# EAGLE library part RECOM_RS3_DC/DC (library mbed-microcontroller)
Recom RS3- DC/DC
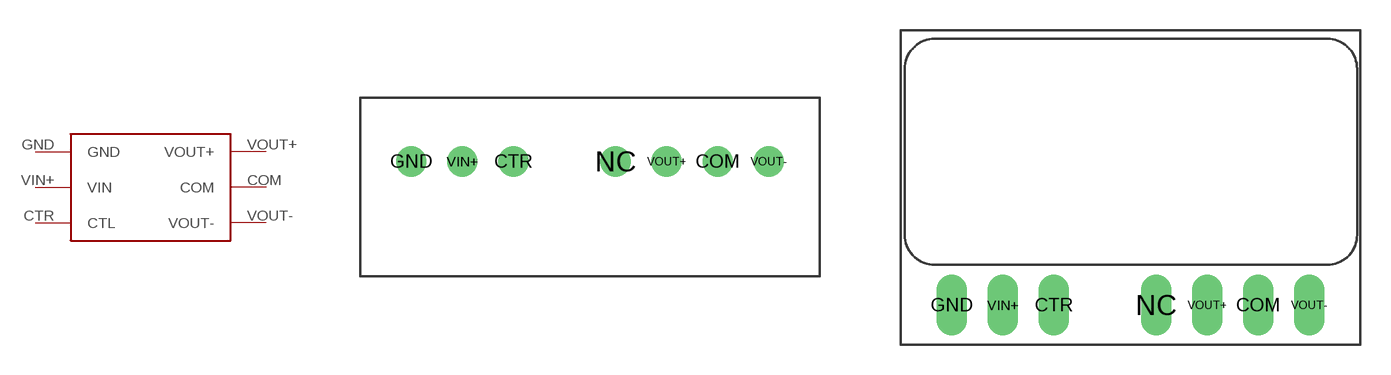
[diagram p18: symbol with the pads of RECOM_RS3_DC/DC; footprints RECOM_RS3_DC/DC, RECOM_RS3_LAY]

Designator prefix -

## RECOM_RS3_DC/DCSTEHEND  [RECOM_RS3_DC/DC]
COM  COM
CTR  CTL
GND  GND
VIN+  VIN
VOUT+  VOUT+
VOUT-  VOUT-

## RECOM_RS3_DC/DCLIEGEND_CUTOUT  [RECOM_RS3_LAY]
Pads as for RECOM_RS3_DC/DC

## Footprint RECOM_RS3_DC/DC (pad centres in mm)
drill 1: COM 5.08,0; CTR -5.08,0; GND -10.16,0; NC 0,0; VIN+ -7.62,0; VOUT+ 2.54,0; VOUT- 7.62,0

## Footprint RECOM_RS3_LAY (pad centres in mm)
Mit Ausschnitt in der Platine
drill 1 long: COM 5.08,0; CTR -5.08,0; GND -10.16,0; NC 0,0; VIN+ -7.62,0; VOUT+ 2.54,0; VOUT- 7.62,0